# Altium schematic symbol library XC6220A331MR-G.SchLib: 1 symbol
Pins are listed as number, name and electrical type; pins without a type are passive.

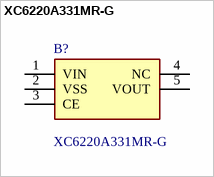
[diagram p0: symbol XC6220A331MR-G]

## XC6220A331MR-G
designator B?
LDO Voltage Regulators; Manufacturer_Name: Torex; Geometry.Height: 1.2mm; Manufacturer_Part_Number: XC6220A331MR-G; Mouser Part Number: 865-XC6220A331MR-G; Mouser Price/Stock: https://www.mouser.co.uk/ProductDetail/Torex-Semiconductor/XC6220A331MR-G?qs=AsjdqWjXhJ8ZSWznL1J0gg%3D%3D; Arrow Part Number: *; Arrow Price/Stock: *; Datasheet Link: https://www.torexsemi.com/file/xc6220/XC6220.pdf
footprint SOT95P280X120-5N
pins: 1 VIN, 2 VSS, 3 CE, 4 NC, 5 VOUT